# EAGLE library part 046866761000846+ (library CONNECTORs)
61 Position FPC Connector Contacts, Bottom 0.008" (0.20mm) Surface Mount, Right Angle
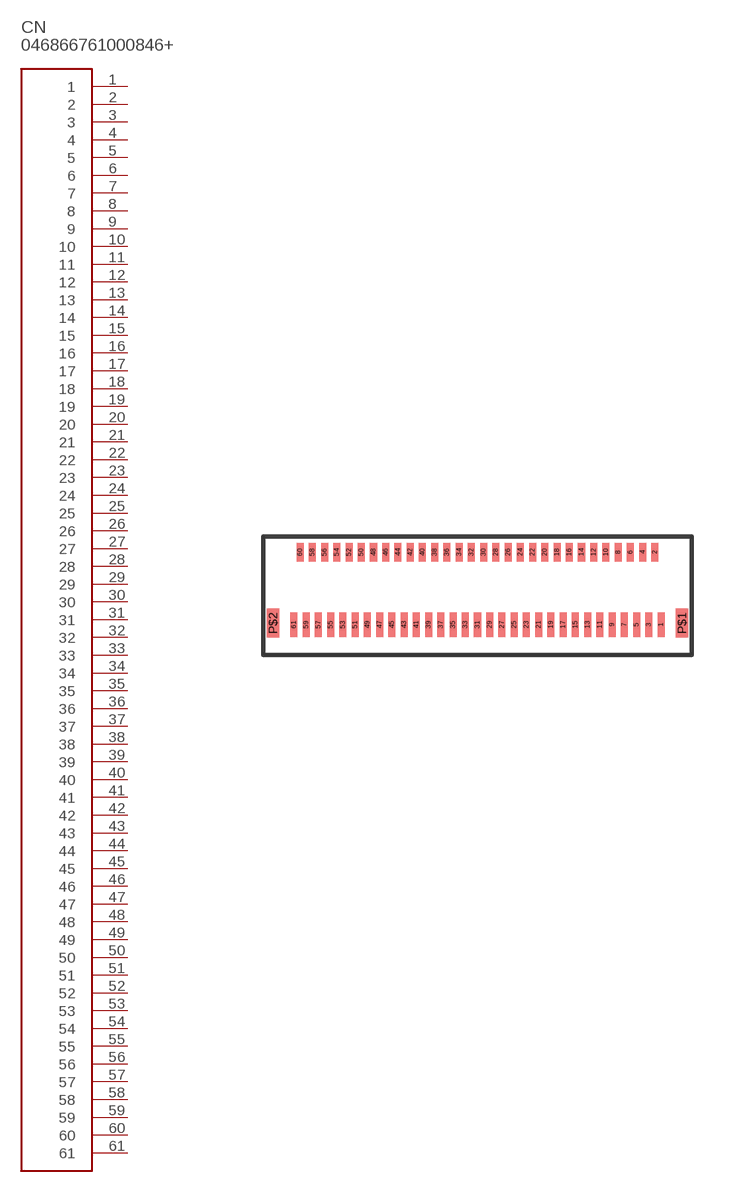
[diagram p65: symbol with the pads of 046866761000846+; footprint 046866761000846+]

Designator prefix CN

## 046866761000846+ (DIGIKEY: 1253-046866761000846+CT-ND; HEGHT: 1; PRICE_PER: 1.51; VALUE: 61 PIN 0.2mm FFC)  [046866761000846+]
1  1
2  2
3  3
4  4
5  5
6  6
7  7
8  8
9  9
10  10
11  11
12  12
13  13
14  14
15  15
16  16
17  17
18  18
19  19
20  20
21  21
22  22
23  23
24  24
25  25
26  26
27  27
28  28
29  29
30  30
31  31
32  32
33  33
34  34
35  35
36  36
37  37
38  38
39  39
40  40
41  41
42  42
43  43
44  44
45  45
46  46
47  47
48  48
49  49
50  50
51  51
52  52
53  53
54  54
55  55
56  56
57  57
58  58
59  59
60  60
61  61

## Footprint 046866761000846+ (pad centres in mm)
smd 0.23 x 0.8: 1 6,0; 3 5.6,0; 5 5.2,0; 7 4.8,0; 9 4.4,0; 11 4,0; 13 3.6,0; 15 3.2,0; 17 2.8,0; 19 2.4,0; 21 2,0; 23 1.6,0; 25 1.2,0; 27 0.8,0; 29 0.4,0; 31 0,0; 33 -0.4,0; 35 -0.8,0; 37 -1.2,0; 39 -1.6,0; 41 -2,0; 43 -2.4,0; 45 -2.8,0; 47 -3.2,0; 49 -3.6,0; 51 -4,0; 53 -4.4,0; 55 -4.8,0; 57 -5.2,0; 59 -5.6,0; 61 -6,0
smd 0.23 x 0.6: 2 5.8,2.37; 4 5.4,2.37; 6 5,2.37; 8 4.6,2.37; 10 4.2,2.37; 12 3.8,2.37; 14 3.4,2.37; 16 3,2.37; 18 2.6,2.37; 20 2.2,2.37; 22 1.8,2.37; 24 1.4,2.37; 26 1,2.37; 28 0.6,2.37; 30 0.2,2.37; 32 -0.2,2.37; 34 -0.6,2.37; 36 -1,2.37; 38 -1.4,2.37; 40 -1.8,2.37; 42 -2.2,2.37; 44 -2.6,2.37; 46 -3,2.37; 48 -3.4,2.37; 50 -3.8,2.37; 52 -4.2,2.37; 54 -4.6,2.37; 56 -5,2.37; 58 -5.4,2.37; 60 -5.8,2.37
smd 0.4 x 0.95: P$1 6.685,0.045; P$2 -6.685,0.045